# Altium footprint library Connector.PcbLib: 159 footprints (part 2 of 10)
Each footprint in its own frame and in the unit in brackets; x right, y up, seen from the top. Pads: shape width x height; smd on the part's side, far side on the other; paste and mask are expansions set on the pad; w line width, h text height; cw(c..) or ccw(c..) is an arc to the next point about the centre after c.
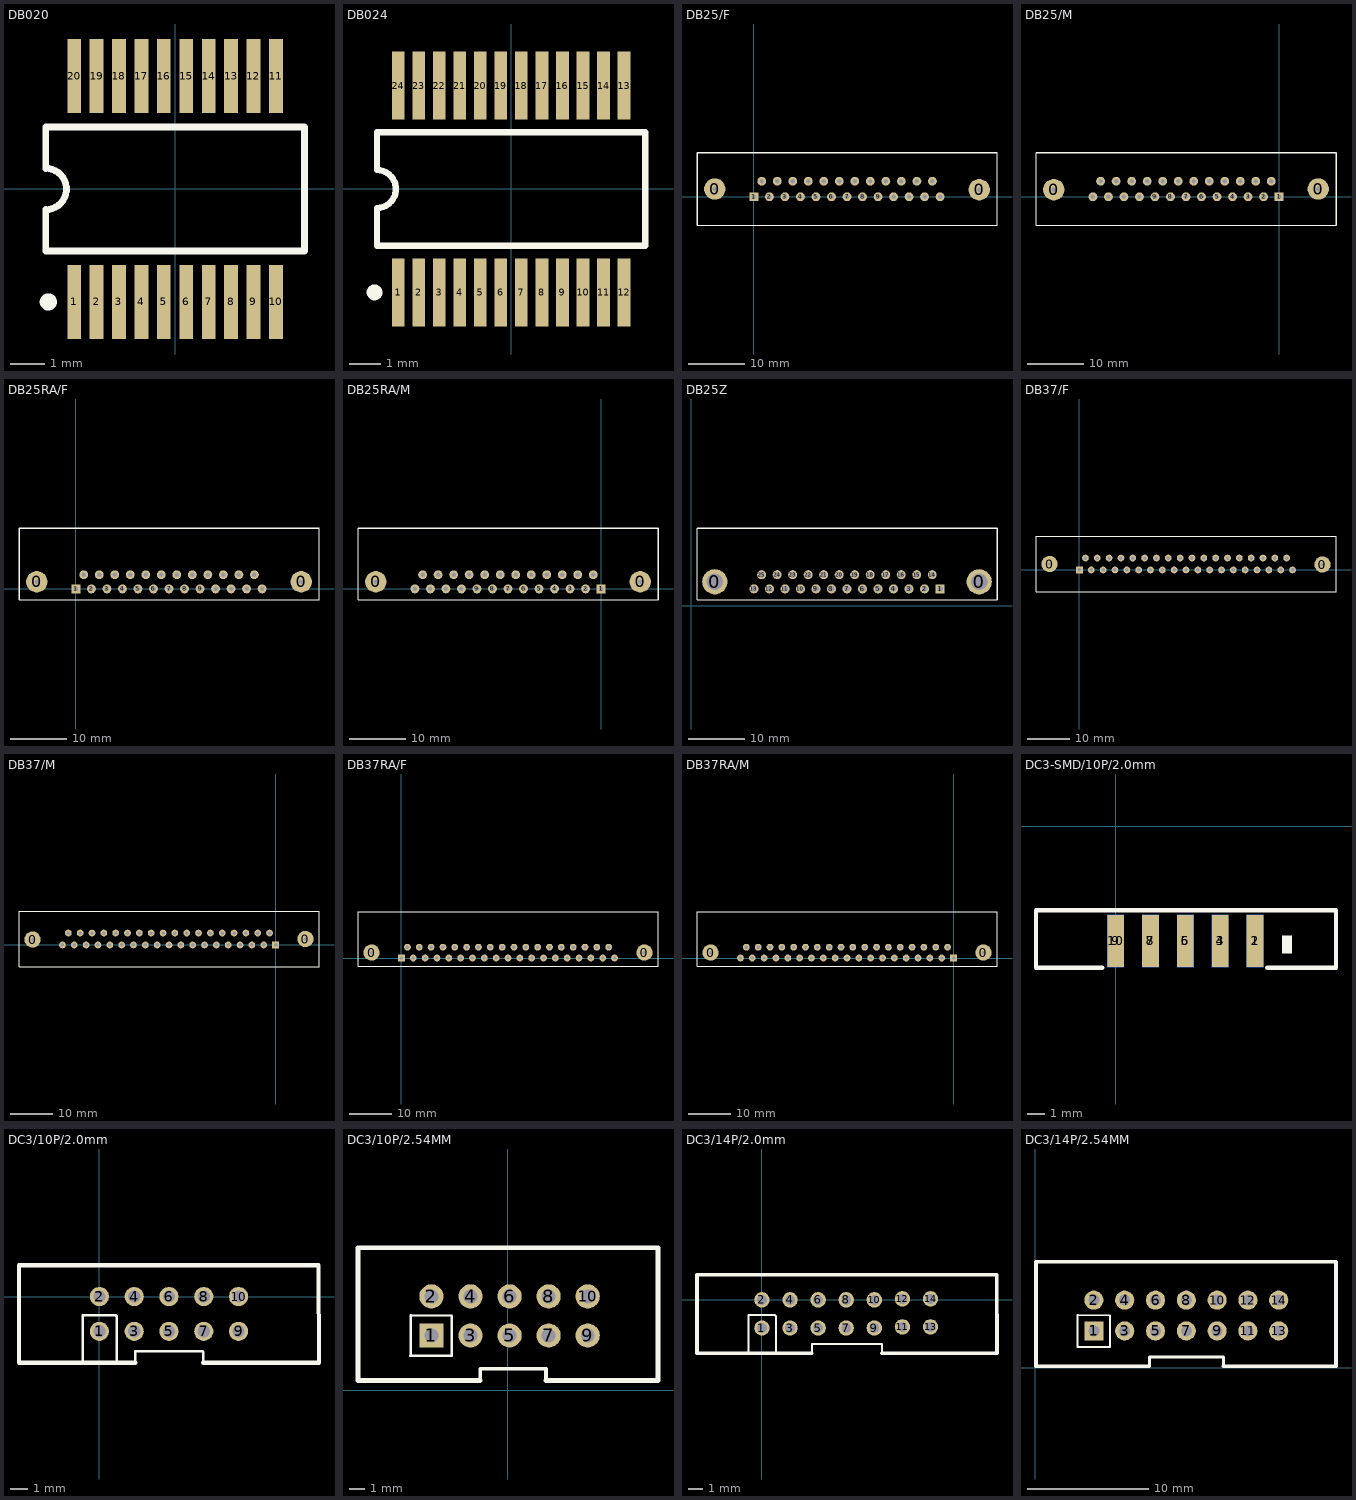
[diagram p1: the footprints below, top view; thin cyan lines are the x and y axes]

## DB020 [mm] "SSOP, Plastic; 20 Leads; Body Width 5.3 mm; Pitch 0.65 mm"
height 2
pads (20):
  rect 0.4x2.15 smd: 1(-2.925,-3.275) 2(-2.275,-3.275) 3(-1.625,-3.275) 4(-0.975,-3.275) 5(-0.325,-3.275) 6(0.325,-3.275) 7(0.975,-3.275) 8(1.625,-3.275) 9(2.275,-3.275) 10(2.925,-3.275) 11(2.925,3.275) 12(2.275,3.275) 13(1.625,3.275) 14(0.975,3.275) 15(0.325,3.275) 16(-0.325,3.275) 17(-0.975,3.275) 18(-1.625,3.275) 19(-2.275,3.275) 20(-2.925,3.275)
Top Overlay:
  circle w0.25: c-3.675,-3.275 r0.125
  lines w0.2: -3.75,-1.8 -3.75,-0.6 ccw(c-3.75,0) -3.75,0.6 -3.75,1.8 3.75,1.8 3.75,-1.8 -3.75,-1.8

## DB024 [mm] "SSOP, Plastic; 24 Leads; Body Width 5.3 mm; Pitch 0.65 mm"
height 2
pads (24):
  rect 0.4x2.15 smd: 1(-3.575,-3.275) 2(-2.925,-3.275) 3(-2.275,-3.275) 4(-1.625,-3.275) 5(-0.975,-3.275) 6(-0.325,-3.275) 7(0.325,-3.275) 8(0.975,-3.275) 9(1.625,-3.275) 10(2.275,-3.275) 11(2.925,-3.275) 12(3.575,-3.275) 13(3.575,3.275) 14(2.925,3.275) 15(2.275,3.275) 16(1.625,3.275) 17(0.975,3.275) 18(0.325,3.275) 19(-0.325,3.275) 20(-0.975,3.275) 21(-1.625,3.275) 22(-2.275,3.275) 23(-2.925,3.275) 24(-3.575,3.275)
Top Overlay:
  circle w0.25: c-4.325,-3.275 r0.125
  lines w0.2: -4.25,-1.8 -4.25,-0.6 ccw(c-4.25,0) -4.25,0.6 -4.25,1.8 4.25,1.8 4.25,-1.8 -4.25,-1.8

## DB25/F [mil]
pads (27):
  round 150 hole 32: 0(-275,55) 0(1583,50)
  rect 62x62 hole 32: 1(0,0)
  round 62 hole 32: 2(109,0) 3(218,0) 4(327,0) 5(436,0) 6(545,0) 7(654,0) 8(763,0) 9(872,0) 10(981,0) 11(1090,0) 12(1199,0) 13(1308,0) 14(55,110) 15(164,110) 16(273,110) 17(382,110) 18(491,110) 19(600,110) 20(709,110) 21(818,110) 22(927,110) 23(1036,110) 24(1145,110) 25(1254,110)
Top Overlay:
  lines w8: -400,-200 1708,-200 1708,310
  lines w10: -400,-200 -400,310 1708,310

## DB25/M [mil]
pads (27):
  round 150 hole 32: 0(-1583,50) 0(275,55)
  rect 62x62 hole 32: 1(0,0)
  round 62 hole 32: 2(-109,0) 3(-218,0) 4(-327,0) 5(-436,0) 6(-545,0) 7(-654,0) 8(-763,0) 9(-872,0) 10(-981,0) 11(-1090,0) 12(-1199,0) 13(-1308,0) 14(-55,110) 15(-164,110) 16(-273,110) 17(-382,110) 18(-491,110) 19(-600,110) 20(-709,110) 21(-818,110) 22(-927,110) 23(-1036,110) 24(-1145,110) 25(-1254,110)
Top Overlay:
  lines w8: -1708,310 -1708,-200 400,-200
  lines w10: -1708,310 400,310 400,-200

## DB25RA/F [mil]
pads (27):
  round 150 hole 32: 0(-275,50) 0(1583,50)
  rect 62x62 hole 32: 1(0,0)
  round 62 hole 32: 2(109,0) 3(218,0) 4(327,0) 5(436,0) 6(545,0) 7(654,0) 8(763,0) 9(872,0) 10(981,0) 11(1090,0) 12(1199,0) 13(1308,0) 14(55,100) 15(164,100) 16(273,100) 17(382,100) 18(491,100) 19(600,100) 20(709,100) 21(818,100) 22(927,100) 23(1036,100) 24(1145,100) 25(1254,100)
Top Overlay:
  lines w8: -400,-75 1708,-75 1708,425
  lines w10: -400,-75 -400,425 1708,425

## DB25RA/M [mil]
pads (27):
  round 150 hole 32: 0(-1583,50) 0(275,50)
  rect 62x62 hole 32: 1(0,0)
  round 62 hole 32: 2(-109,0) 3(-218,0) 4(-327,0) 5(-436,0) 6(-545,0) 7(-654,0) 8(-763,0) 9(-872,0) 10(-981,0) 11(-1090,0) 12(-1199,0) 13(-1308,0) 14(-55,100) 15(-164,100) 16(-273,100) 17(-382,100) 18(-491,100) 19(-600,100) 20(-709,100) 21(-818,100) 22(-927,100) 23(-1036,100) 24(-1145,100) 25(-1254,100)
Top Overlay:
  lines w8: -1708,425 -1708,-75 400,-75
  lines w10: -1708,425 400,425 400,-75

## DB25Z [mm]
pads (27):
  round 4.5 hole 3: 0(4.218,4.284) 0(51.411,4.284)
  rect 1.6x1.6 hole 1: 1(44.426,3.014)
  round 1.6 hole 1: 2(41.657,3.014) 3(38.889,3.014) 4(36.12,3.014) 5(33.352,3.014) 6(30.583,3.014) 7(27.814,3.014) 8(25.046,3.014) 9(22.277,3.014) 10(19.509,3.014) 11(16.74,3.014) 12(13.971,3.014) 13(11.203,3.014) 14(43.029,5.554) 15(40.26,5.554) 16(37.492,5.554) 17(34.723,5.554) 18(31.955,5.554) 19(29.186,5.554) 20(26.417,5.554) 21(23.649,5.554) 22(20.88,5.554) 23(18.112,5.554) 24(15.343,5.554) 25(12.574,5.554)
Top Overlay:
  lines w0.203: 1.043,13.809 1.043,1.109 54.586,1.109
  lines w0.254: 1.043,13.809 54.586,13.809 54.586,1.109

## DB37/F [mil]
pads (39):
  round 150 hole 32: 0(-275,55) 0(2237,50)
  rect 62x62 hole 32: 1(0,0)
  round 62 hole 32: 2(109,0) 3(218,0) 4(327,0) 5(436,0) 6(545,0) 7(654,0) 8(763,0) 9(872,0) 10(981,0) 11(1090,0) 12(1199,0) 13(1308,0) 14(1417,0) 15(1526,0) 16(1635,0) 17(1744,0) 18(1853,0) 19(1962,0) 20(55,110) 21(164,110) 22(273,110) 23(382,110) 24(491,110) 25(600,110) 26(709,110) 27(818,110) 28(927,110) 29(1036,110) 30(1145,110) 31(1254,110) 32(1363,110) 33(1472,110) 34(1581,110) 35(1690,110) 36(1799,110) 37(1908,110)
Top Overlay:
  lines w8: -400,-200 2362,-200 2362,310
  lines w10: -400,-200 -400,310 2362,310

## DB37/M [mil]
pads (39):
  round 150 hole 32: 0(-2237,50) 0(275,55)
  rect 62x62 hole 32: 1(0,0)
  round 62 hole 32: 2(-109,0) 3(-218,0) 4(-327,0) 5(-436,0) 6(-545,0) 7(-654,0) 8(-763,0) 9(-872,0) 10(-981,0) 11(-1090,0) 12(-1199,0) 13(-1308,0) 14(-1417,0) 15(-1526,0) 16(-1635,0) 17(-1744,0) 18(-1853,0) 19(-1962,0) 20(-55,110) 21(-164,110) 22(-273,110) 23(-382,110) 24(-491,110) 25(-600,110) 26(-709,110) 27(-818,110) 28(-927,110) 29(-1036,110) 30(-1145,110) 31(-1254,110) 32(-1363,110) 33(-1472,110) 34(-1581,110) 35(-1690,110) 36(-1799,110) 37(-1908,110)
Top Overlay:
  lines w8: -2362,310 -2362,-200 400,-200
  lines w10: -2362,310 400,310 400,-200

## DB37RA/F [mil]
pads (39):
  round 150 hole 32: 0(-275,50) 0(2237,50)
  rect 62x62 hole 32: 1(0,0)
  round 62 hole 32: 2(109,0) 3(218,0) 4(327,0) 5(436,0) 6(545,0) 7(654,0) 8(763,0) 9(872,0) 10(981,0) 11(1090,0) 12(1199,0) 13(1308,0) 14(1417,0) 15(1526,0) 16(1635,0) 17(1744,0) 18(1853,0) 19(1962,0) 20(55,100) 21(164,100) 22(273,100) 23(382,100) 24(491,100) 25(600,100) 26(709,100) 27(818,100) 28(927,100) 29(1036,100) 30(1145,100) 31(1254,100) 32(1363,100) 33(1472,100) 34(1581,100) 35(1690,100) 36(1799,100) 37(1908,100)
Top Overlay:
  lines w8: -400,-75 2362,-75 2362,425
  lines w10: -400,-75 -400,425 2362,425

## DB37RA/M [mil]
pads (39):
  round 150 hole 32: 0(-2237,50) 0(275,50)
  rect 62x62 hole 32: 1(0,0)
  round 62 hole 32: 2(-109,0) 3(-218,0) 4(-327,0) 5(-436,0) 6(-545,0) 7(-654,0) 8(-763,0) 9(-872,0) 10(-981,0) 11(-1090,0) 12(-1199,0) 13(-1308,0) 14(-1417,0) 15(-1526,0) 16(-1635,0) 17(-1744,0) 18(-1853,0) 19(-1962,0) 20(-55,100) 21(-164,100) 22(-273,100) 23(-382,100) 24(-491,100) 25(-600,100) 26(-709,100) 27(-818,100) 28(-927,100) 29(-1036,100) 30(-1145,100) 31(-1254,100) 32(-1363,100) 33(-1472,100) 34(-1581,100) 35(-1690,100) 36(-1799,100) 37(-1908,100)
Top Overlay:
  lines w8: -2362,425 -2362,-75 400,-75
  lines w10: -2362,425 400,425 400,-75

## DC3-SMD/10P/2.0mm [mm]
pads (10):
  rect 0.95x3 smd: 1(8,-6.579) 3(6,-6.579) 5(4,-6.579) 7(2,-6.579) 9(0,-6.579)
  rect 0.95x3 smd far side: 2(8,-6.579) 4(6,-6.579) 6(4,-6.579) 8(2,-6.579) 10(0,-6.579)
Top Overlay:
  rectangle: 9.55,-7.29 10.135,-6.274
  lines w0.254: -0.762,-8.103 -4.572,-8.103 -4.572,-4.826 12.649,-4.826 12.649,-8.103 8.712,-8.103

## DC3/10P/2.0mm [mm]
pads (10):
  round 1.1 hole 0.7: 1(0,-2) 2(0,0) 3(2,-2) 4(2,0) 5(4,-2) 6(4,0) 7(6,-2) 8(6,0) 9(8,-2) 10(8,0)
Top Overlay:
  lines w0.152: -0.965,-3.759 -0.965,-1.092 ; -0.965,-1.067 0.914,-1.067 0.991,-1.143 0.991,-3.734 ; 2.057,-3.81 2.057,-3.15 5.944,-3.15 ; 5.969,-3.81 5.969,-3.2
  lines w0.254: 2.057,-3.81 -4.623,-3.81 -4.623,1.803 12.596,1.803 12.624,-3.81 5.969,-3.81

## DC3/10P/2.54MM [mil]
pads (10):
  rect 62x62 hole 35.43: 1(-195,140)
  round 62 hole 35.43: 2(-195,240) 3(-95,140) 4(-95,240) 5(5,140) 6(5,240) 7(105,140) 8(105,240) 9(205,140) 10(205,240)
Top Overlay:
  lines w6: -238,191 -144,191 -143,190 -143,88 -249,88 -248,89 -248,192 -247,191 -237,191
  lines w10: -70,25 -70,54.74 98,54.74 98,25
  lines w12: -70,25 -383,25 -383,365 385,365 385,25 98,25

## DC3/14P/2.0mm [mm]
pads (14):
  round 1.1 hole 0.7: 1(0,-2) 2(0,0) 3(2,-2) 4(2,0) 5(4,-2) 6(4,0) 7(6,-2) 8(6,0) 9(8,-2) 10(8,0) 11(10,-1.924) 12(10,0.076) 13(12,-1.924) 14(12,0.076)
Top Overlay:
  lines w0.152: -0.965,-3.759 -0.965,-1.092 ; -0.965,-1.067 0.914,-1.067 0.991,-1.143 0.991,-3.734 ; 3.556,-3.81 3.556,-3.15 8.534,-3.15 8.534,-3.81
  lines w0.254: 3.556,-3.81 -4.623,-3.81 -4.623,1.803 16.703,1.803 16.732,-3.81 8.534,-3.81

## DC3/14P/2.54MM [mil]
pads (14):
  rect 62x62 hole 35.43: 1(191,120)
  round 62 hole 35.43: 2(191,220) 3(291,120) 4(291,220) 5(391,120) 6(391,220) 7(491,120) 8(491,220) 9(591,120) 10(591,220) 11(691,120) 12(691,220) 13(791,120) 14(791,220)
Top Overlay:
  lines w6: 148,171 242,171 243,170 243,68 137,68 138,69 138,172 139,171 149,171
  lines w10: 371,5 371,34.74 612,34.74 612,5
  lines w12: 371,5 3,5 3,345 977,345 977,5 612,5